# Altium footprint library PCB - CONNECTOR - KEYSTONE - KEYSTONE 110.PcbLib: 1 footprints
Each footprint in its own frame and in the unit in brackets; x right, y up, seen from the top. Pads: shape width x height; smd on the part's side, far side on the other; paste and mask are expansions set on the pad; w line width, h text height; cw(c..) or ccw(c..) is an arc to the next point about the centre after c.
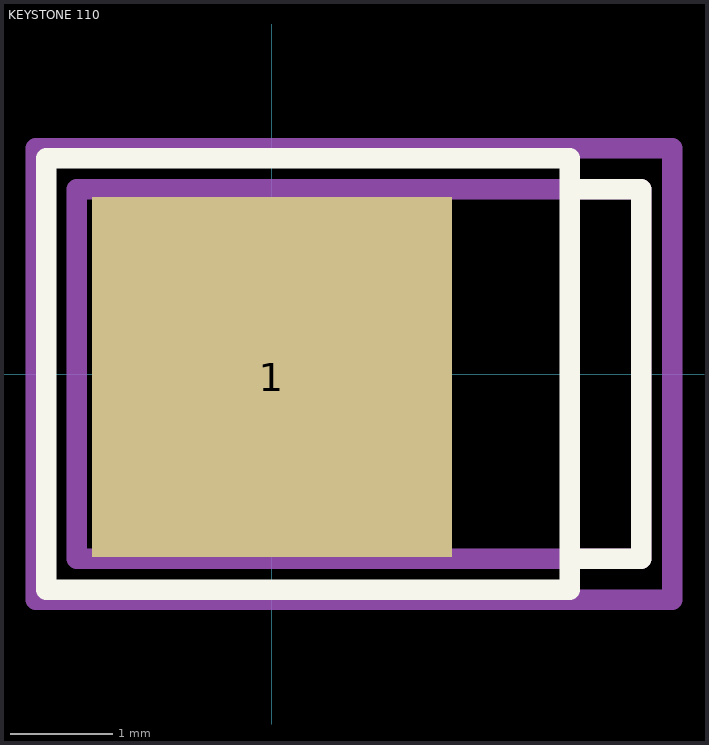
[diagram p0: the footprint, top view; thin cyan lines are the x and y axes]

## KEYSTONE 110 [mm] "BATT CONT SPRING MULT 1 CELL SMD"
height 3.17
pads (1):
  rect 3.51x3.51 smd: 1(0,-0.03)
Top Overlay:
  lines w0.2: 2.9,-1.8 3.6,-1.8 3.6,1.8 2.9,1.8 ; -2.2,-2.1 -2.2,2.1 2.9,2.1 2.9,-2.1 -2.2,-2.1
Top Assembly:
  lines w0.2: -0.5,0 0.5,0 ; 0,-0.5 0,0.5 ; -1.9,-1.8 3.6,-1.8 3.6,1.8 -1.9,1.8 -1.9,-1.8
Top Courtyard (Mech15):
  lines w0.2: -2.3,-2.2 3.9,-2.2 3.9,2.2 -2.3,2.2 -2.3,-2.2
3D body "Keystone 110.step": height 3.17, standoff 0, extent -1.511,-1.783 3.645,1.723